# EAGLE library part TEENSY_LC_MOTOR (library Teensy_3_and_LC_Series_Boards_v1.1)
teensy, motors only
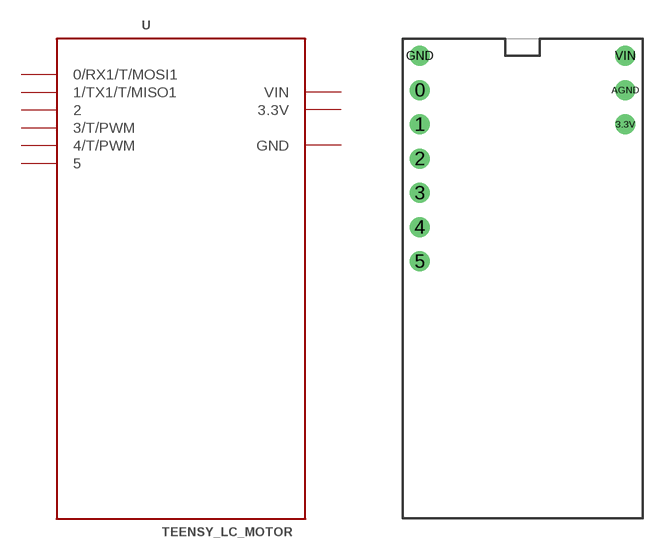
[diagram p15: symbol with the pads of TEENSYLC-MOTOR; footprint TEENSYLC-MOTOR]

Designator prefix -

## TEENSY_LC_MOTOR  [TEENSYLC-MOTOR]
0  0/RX1/T/MOSI1
1  1/TX1/T/MISO1
2  2
3  3/T/PWM
3.3V  3.3V  pwr
4  4/T/PWM
5  5
GND  GND  pwr
VIN  VIN  pwr

## Footprint TEENSYLC-MOTOR (pad centres in mm)
drill 0.965: 0 -7.62,13.97; 1 -7.62,11.43; 2 -7.62,8.89; 3 -7.62,6.35; 3.3V 7.62,11.43; 4 -7.62,3.81; 5 -7.62,1.27; AGND 7.62,13.97; GND -7.62,16.51; VIN 7.62,16.51